# Altium footprint library Hirose_FH12-16S-0.5SH.PcbLib: 1 footprints
Each footprint in its own frame and in the unit in brackets; x right, y up, seen from the top. Pads: shape width x height; smd on the part's side, far side on the other; paste and mask are expansions set on the pad; w line width, h text height; cw(c..) or ccw(c..) is an arc to the next point about the centre after c.
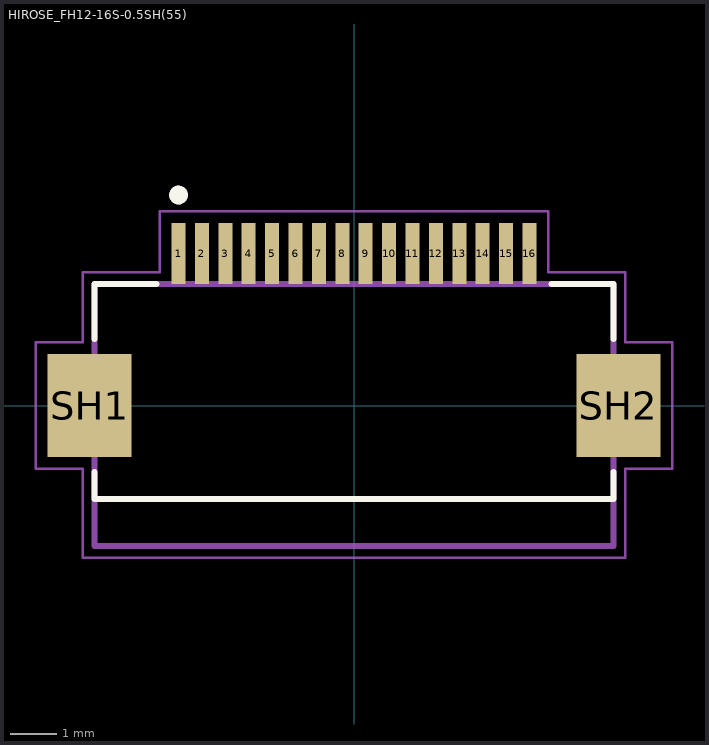
[diagram p0: the footprint, top view; thin cyan lines are the x and y axes]

## HIROSE_FH12-16S-0.5SH(55) [mm]
height 4.8
pads (18):
  rect 0.3x1.3 smd paste-2 mask+0.102: 1(-3.75,3.25) 2(-3.25,3.25) 3(-2.75,3.25) 4(-2.25,3.25) 5(-1.75,3.25) 6(-1.25,3.25) 7(-0.75,3.25) 8(-0.25,3.25) 9(0.25,3.25) 10(0.75,3.25) 11(1.25,3.25) 12(1.75,3.25) 13(2.25,3.25) 14(2.75,3.25) 15(3.25,3.25) 16(3.75,3.25)
  rect 1.8x2.2 smd paste+0 mask+0.102: SH1(-5.65,0) SH2(5.65,0)
Top Overlay:
  circle w0.2: c-3.75,4.5 r0.1
  lines w0.127: -5.55,-1.42 -5.55,-2 5.55,-2 5.55,-1.42 ; -5.55,1.42 -5.55,2.6 -4.22,2.6 ; 4.22,2.6 5.55,2.6 5.55,1.42
Top Paste:
  region: -3.625,2.6 -3.875,2.6 -3.875,3.9 -3.625,3.9
  region: -3.125,2.6 -3.375,2.6 -3.375,3.9 -3.125,3.9
  region: -2.625,2.6 -2.875,2.6 -2.875,3.9 -2.625,3.9
  region: -2.125,2.6 -2.375,2.6 -2.375,3.9 -2.125,3.9
  region: -1.625,2.6 -1.875,2.6 -1.875,3.9 -1.625,3.9
  region: -1.125,2.6 -1.375,2.6 -1.375,3.9 -1.125,3.9
  region: -0.625,2.6 -0.875,2.6 -0.875,3.9 -0.625,3.9
  region: -0.125,2.6 -0.375,2.6 -0.375,3.9 -0.125,3.9
  region: 0.375,2.6 0.125,2.6 0.125,3.9 0.375,3.9
  region: 0.875,2.6 0.625,2.6 0.625,3.9 0.875,3.9
  region: 1.375,2.6 1.125,2.6 1.125,3.9 1.375,3.9
  region: 1.875,2.6 1.625,2.6 1.625,3.9 1.875,3.9
  region: 2.375,2.6 2.125,2.6 2.125,3.9 2.375,3.9
  region: 2.875,2.6 2.625,2.6 2.625,3.9 2.875,3.9
  region: 3.375,2.6 3.125,2.6 3.125,3.9 3.375,3.9
  region: 3.875,2.6 3.625,2.6 3.625,3.9 3.875,3.9
Assembly Top:
  circle w0.2: c-3.75,4.5 r0.1
  lines w0.127: -5.55,-2 -5.55,-3 5.55,-3 5.55,-2 ; -5.55,-2 -5.55,2.6 5.55,2.6 5.55,-2 ; -5.55,-2 5.55,-2
Courtyard Top:
  lines w0.05: -6.8,-1.35 -5.8,-1.35 -5.8,-3.25 5.8,-3.25 5.8,-1.35 6.8,-1.35 6.8,1.35 5.8,1.35 5.8,2.85 4.15,2.85 4.15,4.15 -4.15,4.15 -4.15,2.85 -5.8,2.85 -5.8,1.35 -6.8,1.35 -6.8,-1.35
3D body "step_temp.STEP": height 2.11, standoff 0.01, extent -6.005,-3.098 6.096,3.302